# EAGLE library part LED_RGBW_3W (library blinkinlabs)
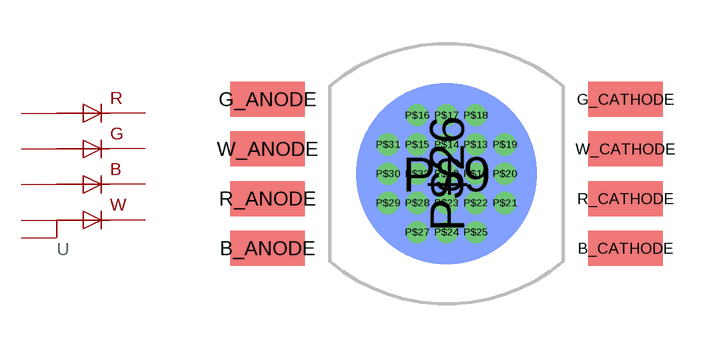
[diagram p23: symbol with the pads of LED_RGBW_3W; footprint LED_RGBW_3W]

Designator prefix -

## LED_RGBW_3W  [LED_RGBW_3W]
B_ANODE  B_ANODE
B_CATHODE  B__CATHODE
G_ANODE  G_ANODE
G_CATHODE  G_CATHODE
P$9  PAD
P$10  PAD
P$12  PAD
P$13  PAD
P$14  PAD
P$15  PAD
P$16  PAD
P$17  PAD
P$18  PAD
P$19  PAD
P$20  PAD
P$21  PAD
P$22  PAD
P$23  PAD
P$24  PAD
P$25  PAD
P$26  PAD
P$27  PAD
P$28  PAD
P$29  PAD
P$30  PAD
P$31  PAD
P$32  PAD
R_ANODE  R_ANODE
R_CATHODE  R_CATHODE
W_ANODE  W_ANODE
W_CATHODE  W_CATHODE

## Footprint LED_RGBW_3W (pad centres in mm)
smd 2.55 x 1.2: B_ANODE -6.125,-2.55; B_CATHODE 6.125,-2.55; G_ANODE -6.125,2.55; G_CATHODE 6.125,2.55; R_ANODE -6.125,-0.85; R_CATHODE 6.125,-0.85; W_ANODE -6.125,0.85; W_CATHODE 6.125,0.85
smd 6.2 x 6.2: P$9 0,0
drill 0.254: P$10 0,0; P$12 1,0; P$13 1,1; P$14 0,1; P$15 -1,1; P$16 -1,2; P$17 0,2; P$18 1,2; P$19 2,1; P$20 2,0; P$21 2,-1; P$22 1,-1; P$23 0,-1; P$24 0,-2; P$25 1,-2; P$27 -1,-2; P$28 -1,-1; P$29 -2,-1; P$30 -2,0; P$31 -2,1; P$32 -1,0
smd 6.2 x 6.2 bottom: P$26 0,0